# Altium schematic symbol library Charger.SchLib: 8 symbols
Pins are listed as number, name and electrical type; pins without a type are passive.

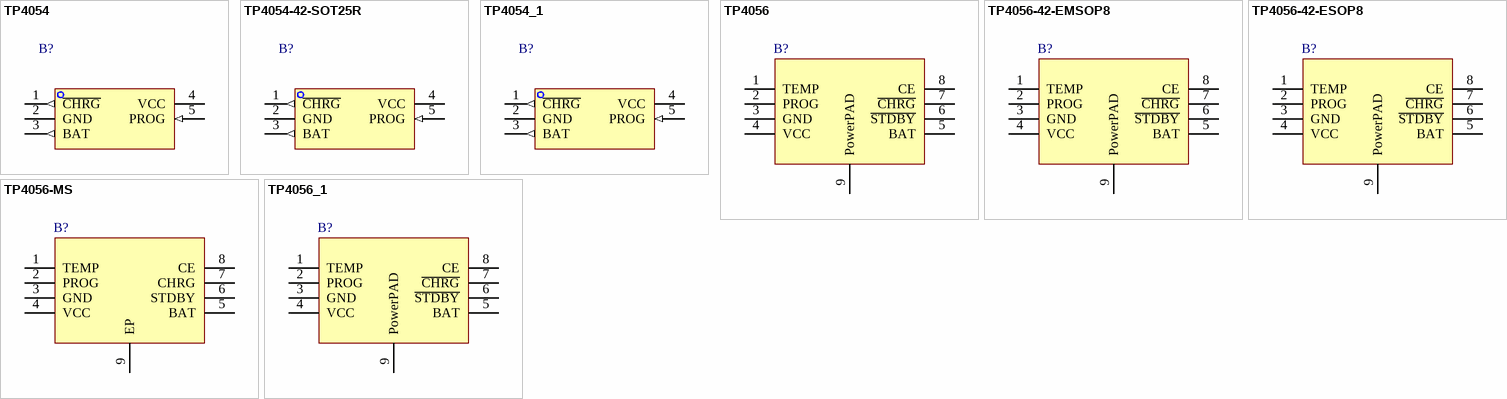
[diagram p0: symbols TP4054 to TP4056_1]

## TP4054
designator B?  (value not drawn)
UMW(友台半导体) 1A 线性锂离子电池充电器 SOT-23-5; 类别: 充电管理; 子类别: 锂离子/聚合物电池充电管理; 工作电压: 4.2V~6.5V; 输出电流: 500mA; 电池数量: 1; 工作温度: -40℃~+85℃; 制造商: UMW(友台半导体); 封装: SOT-23-5; ComponentLink1Description: 数据手册; ComponentLink1URL: https://www.umw-ic.com/static/pdf/46c15f53afcf69d99cf4bf3c625c6952.pdf
footprint SOT23-5L_UMW
pins: 1 ~{CHRG} (out), 2 GND, 3 BAT (out), 4 VCC, 5 PROG (in)

## TP4054-42-SOT25R
designator B?  (value not drawn)
TOPPOWER(南京拓微) 1A 线性锂离子电池充电器 SOT-23-5; 类别: 充电管理; 子类别: 锂离子/聚合物电池充电管理; 工作电压: 4V~9V; 输出电流: 800mA; 电池数量: 1; 工作温度: -40℃~+85℃; 制造商: TOPPOWER(南京拓微); 封装: SOT-23-5; ComponentLink1Description: 数据手册; ComponentLink1URL: http://www.tp-asic.com/res/tp-asic/pdres/201203/tp4054_42.pdf
footprint TOPPOWER-TP4054-42-SOT25R
pins: 1 ~{CHRG} (out), 2 GND, 3 BAT (out), 4 VCC, 5 PROG (in)

## TP4054_1
designator B?, comment TP4054  (value not drawn)
SMSEMI(杰盛微) 1A 线性锂离子电池充电器 SOT-23-5; 类别: 充电管理; 子类别: 锂离子/聚合物电池充电管理; 工作电压: 4.5V~5.5V; 输出电流: 535mA; 电池数量: 1; 工作温度: -40℃~+85℃; 制造商: SMSEMI(杰盛微); 封装: SOT-23-5; ComponentLink1Description: 数据手册; ComponentLink1URL: http://www.tp-asic.com/res/tp-asic/pdres/201203/tp4054_42.pdf
pins: 1 ~{CHRG} (out), 2 GND, 3 BAT (out), 4 VCC, 5 PROG (in)

## TP4056
designator B?  (value not drawn)
TPOWER(天源) 1A 线性锂离子电池充电器 ESOP-8; 类别: 充电管理; 子类别: 锂离子/聚合物电池充电管理; 工作电压: 4V~6V; 电池数量: 1; 工作温度: -40℃~+85℃; 制造商: TPOWER(天源); 封装: ESOP-8; 输出电流: 1A; ComponentLink1Description: 数据手册; ComponentLink1URL: http://www.tp-asic.com/res/tp-asic/pdres/202206/TP4056_42.pdf
footprint TPOWER-TP4056-ESOP8 (SOP, 8-Leads, Body 4.90x3.90mm, Pitch 1.27mm, Thermal Pad 3.41x2.52mm, IPC Medium Density)
pins: 1 TEMP, 2 PROG, 3 GND, 4 VCC, 5 BAT, 6 ~{STDBY}, 7 ~{CHRG}, 8 CE, 9 PowerPAD

## TP4056-42-EMSOP8
designator B?, comment TP4056-42-ESOP8  (value not drawn)
TOPPOWER(南京拓微) 1A 线性锂离子电池充电器 EMSOP-8; 类别: 充电管理; 子类别: 锂离子/聚合物电池充电管理; 工作电压: 4V~8V; 电池数量: 1; 工作温度: -40℃~+85℃; 制造商: TOPPOWER(南京拓微); 封装: EMSOP-8; 输出电流: 1A; ComponentLink1Description: 数据手册; ComponentLink1URL: http://www.tp-asic.com/res/tp-asic/pdres/202206/TP4056_42.pdf
footprint TOPPOWER-TP4056-42-ESOP8 (SOIC127P600X175-9N)
pins: 1 TEMP, 2 PROG, 3 GND, 4 VCC, 5 BAT, 6 ~{STDBY}, 7 ~{CHRG}, 8 CE, 9 PowerPAD

## TP4056-42-ESOP8
designator B?  (value not drawn)
TOPPOWER(南京拓微) 1A 线性锂离子电池充电器 ESOP-8; 类别: 充电管理; 子类别: 锂离子/聚合物电池充电管理; 工作电压: 4V~8V; 电池数量: 1; 工作温度: -40℃~+85℃; 制造商: TOPPOWER(南京拓微); 封装: ESOP-8; 输出电流: 1A; ComponentLink1Description: 数据手册; ComponentLink1URL: http://www.tp-asic.com/res/tp-asic/pdres/202206/TP4056_42.pdf
footprint TOPPOWER-TP4056-42-ESOP8 (SOIC127P600X175-9N)
pins: 1 TEMP, 2 PROG, 3 GND, 4 VCC, 5 BAT, 6 ~{STDBY}, 7 ~{CHRG}, 8 CE, 9 PowerPAD

## TP4056-MS
designator B?  (value not drawn)
MSKSEMI(美森科) 1A 线性锂离子电池充电器 ESOP-8; 类别: 充电管理; 子类别: 锂离子/聚合物电池充电管理; 工作电压: 4.2V~9V; 电池数量: 1; 工作温度: -40℃~+85℃; 制造商: MSKSEMI(美森科); 封装: ESOP-8; 输出电流: 1A; ComponentLink1Description: 数据手册; ComponentLink1URL: http://www.tp-asic.com/res/tp-asic/pdres/202206/TP4056_42.pdf
footprint MSKSEMI-SOP-8
pins: 1 TEMP, 2 PROG, 3 GND, 4 VCC, 5 BAT, 6 STDBY, 7 CHRG, 8 CE, 9 EP

## TP4056_1
designator B?, comment TP4056  (value not drawn)
UMW(友台半导体) 1A 线性锂离子电池充电器 ESOP-8; 类别: 充电管理; 子类别: 锂离子/聚合物电池充电管理; 工作电压: 3.7V~6.5V; 电池数量: 1; 工作温度: -40℃~+85℃; 制造商: UMW(友台半导体); 封装: ESOP-8; 输出电流: 1A; ComponentLink1Description: 数据手册; ComponentLink1URL: http://www.tp-asic.com/res/tp-asic/pdres/202206/TP4056_42.pdf
footprint UMW-TP4056-ESOP8 (TSOP, 8-Leads, Body 4.90x3.90mm, Pitch 1.27mm, Thermal Pad 3.50x3.40mm, IPC Medium Density)
pins: 1 TEMP, 2 PROG, 3 GND, 4 VCC, 5 BAT, 6 ~{STDBY}, 7 ~{CHRG}, 8 CE, 9 PowerPAD